# EAGLE library part 690367182272 (library Wurth_Elektronik2)
WR-MM Female Connector without Latch and without Polarization, 22 Pins=>Code : Con_BTB_MM_Female_THT_St_690367182272 <http://katalog.we-online.de/media/thumbs2/eican/thb_Con_BTB_MM_Female_THT_St_69036718xx72_pf2.jpg> Details see: http://katalog.we-online.de/en/em/6903_6718_xx_72 Created 2014-06-04, Karrer Zheng 2014 (C) Würth Elektronik
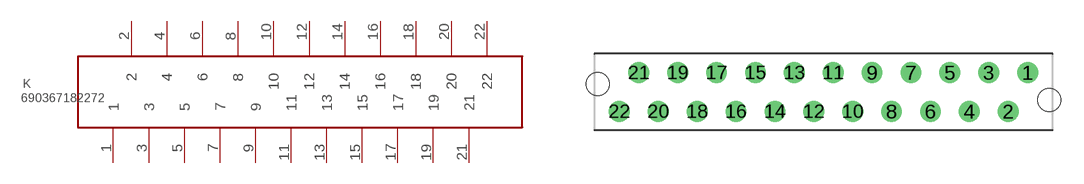
[diagram p351: symbol with the pads of 690367182272; footprint 690367182272]

Designator prefix K

## 690367182272  [690367182272]
1  1  pas
2  2  pas
3  3  pas
4  4  pas
5  5  pas
6  6  pas
7  7  pas
8  8  pas
9  9  pas
10  10  pas
11  11  pas
12  12  pas
13  13  pas
14  14  pas
15  15  pas
16  16  pas
17  17  pas
18  18  pas
19  19  pas
20  20  pas
21  21  pas
22  22  pas

## Footprint 690367182272 (pad centres in mm)
WR-MM Female Connector without Latch and without Polarization, 22 Pins
drill 0.85: 1 12.065,1.27; 2 10.795,-1.27; 3 9.525,1.27; 4 8.255,-1.27; 5 6.985,1.27; 6 5.715,-1.27; 7 4.445,1.27; 8 3.175,-1.27; 9 1.905,1.27; 10 0.635,-1.27; 11 -0.635,1.27; 12 -1.905,-1.27; 13 -3.175,1.27; 14 -4.445,-1.27; 15 -5.715,1.27; 16 -6.985,-1.27; 17 -8.255,1.27; 18 -9.525,-1.27; 19 -10.795,1.27; 20 -12.065,-1.27; 21 -13.335,1.27; 22 -14.605,-1.27
hole 1.5 at 13.465,-0.53
hole 1.5 at -16.005,0.53